# EAGLE library part S-8337ABIA-T8T1U-BOOSTCONVERTER (library OddsBooster)
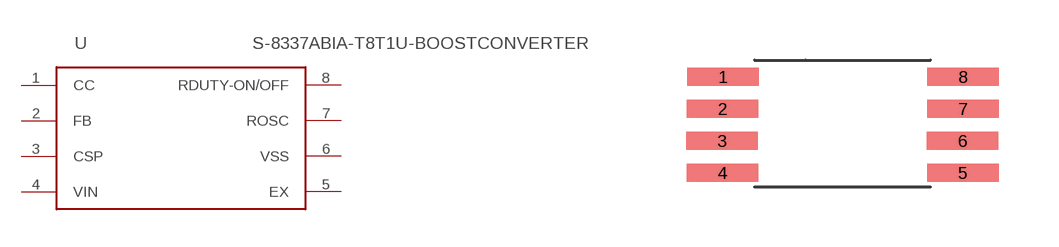
[diagram p2: symbol with the pads of S-8337ABIA-T8T1U-BOOSTCONVERTER; footprint S-8337ABIA-T8T1U-BOOSTCONVERTER]

Designator prefix U

## S-8337ABIA-T8T1U-BOOSTCONVERTER  [S-8337ABIA-T8T1U-BOOSTCONVERTER]
1  CC
2  FB
3  CSP
4  VIN  pwr
5  EX
6  VSS  pwr
7  ROSC
8  RDUTY-ON/OFF

## Footprint S-8337ABIA-T8T1U-BOOSTCONVERTER (pad centres in mm)
smd 1.78 x 0.45: 1 -2.11,-0.19; 2 -2.12,-0.99; 3 -2.13,-1.79; 4 -2.12,-2.59; 5 3.89,-2.59; 6 3.88,-1.79; 7 3.89,-0.99; 8 3.89,-0.19